# EAGLE library part TLC5926_27 (library Gadgeteer)
The TLC5925 is designed for LED displays and LED lighting applications. The TLC5925 contains a 16-bit shift register and data latches, which convert serial input data into parallel output format. At the TLC5925 output stage, 16 regulated-current ports provide uniform and constant current for driving LEDs within a wide range of VF variations. Used in system design for LED display applications (e.g., LED panels), the TLC5925 provides great flexibility and device performance. Users can adjust the output current from 3 mA to 45 mA through an external resistor, Rext, which gives flexibility in controlling the light intensity of LEDs. TLC5925 is designed for up to 17 V at the output port. The high clock frequency, 30 MHz, also satisfies the system requirements of high-volume data transmission. The serial data is transferred into TLC5925 via SDI, shifted in the shift register, and transferred out via SDO. LE can latch the serial data in the shift register to the output latch. OE enables the output drivers to sink current.
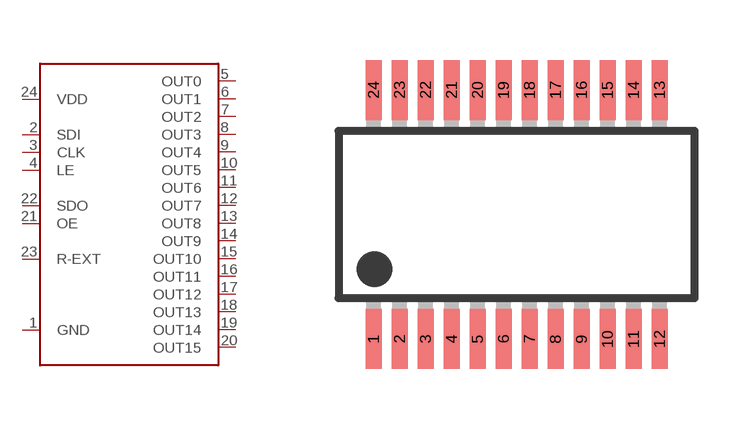
[diagram p4: symbol with the pads of SSOP24; footprint SSOP24]

Designator prefix -

## TLC5926_27  [SSOP24]
1  GND
2  SDI
3  CLK
4  LE
5  OUT0
6  OUT1
7  OUT2
8  OUT3
9  OUT4
10  OUT5
11  OUT6
12  OUT7
13  OUT8
14  OUT9
15  OUT10
16  OUT11
17  OUT12
18  OUT13
19  OUT14
20  OUT15
21  OE
22  SDO
23  R-EXT
24  VDD

## Footprint SSOP24 (pad centres in mm)
Shrink Small Outline Package SSOP-24
smd 0.4 x 1.5: 1 -3.575,-3.117; 2 -2.925,-3.117; 3 -2.275,-3.117; 4 -1.625,-3.117; 5 -0.975,-3.117; 6 -0.325,-3.117; 7 0.325,-3.117; 8 0.975,-3.117; 9 1.625,-3.117; 10 2.275,-3.117; 11 2.925,-3.117; 12 3.575,-3.117; 13 3.575,3.117; 14 2.925,3.117; 15 2.275,3.117; 16 1.625,3.117; 17 0.975,3.117; 18 0.325,3.117; 19 -0.325,3.117; 20 -0.975,3.117; 21 -1.625,3.117; 22 -2.275,3.117; 23 -2.925,3.117; 24 -3.575,3.117